# Altium integrated library 2007435-1.IntLib: 1 symbol
Pins are listed as number, name and electrical type; pins without a type are passive.

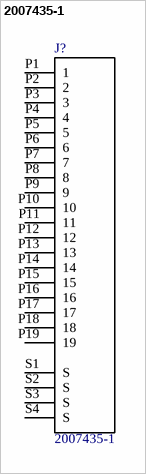
[diagram p0: symbol 2007435-1]

## 2007435-1
designator J?
Value: *
footprint *TE_2007435-1_2007435-1(Primary)
pins: P1 1, P2 2, P3 3, P4 4, P5 5, P6 6, P7 7, P8 8, P9 9, P10 10, P11 11, P12 12, P13 13, P14 14, P15 15, P16 16, P17 17, P18 18, P19 19, S1 S, S2 S, S3 S, S4 S